# Altium schematic symbol library Microcontrollers.SchLib: 10 symbols
Pins are listed as number, name and electrical type; pins without a type are passive.

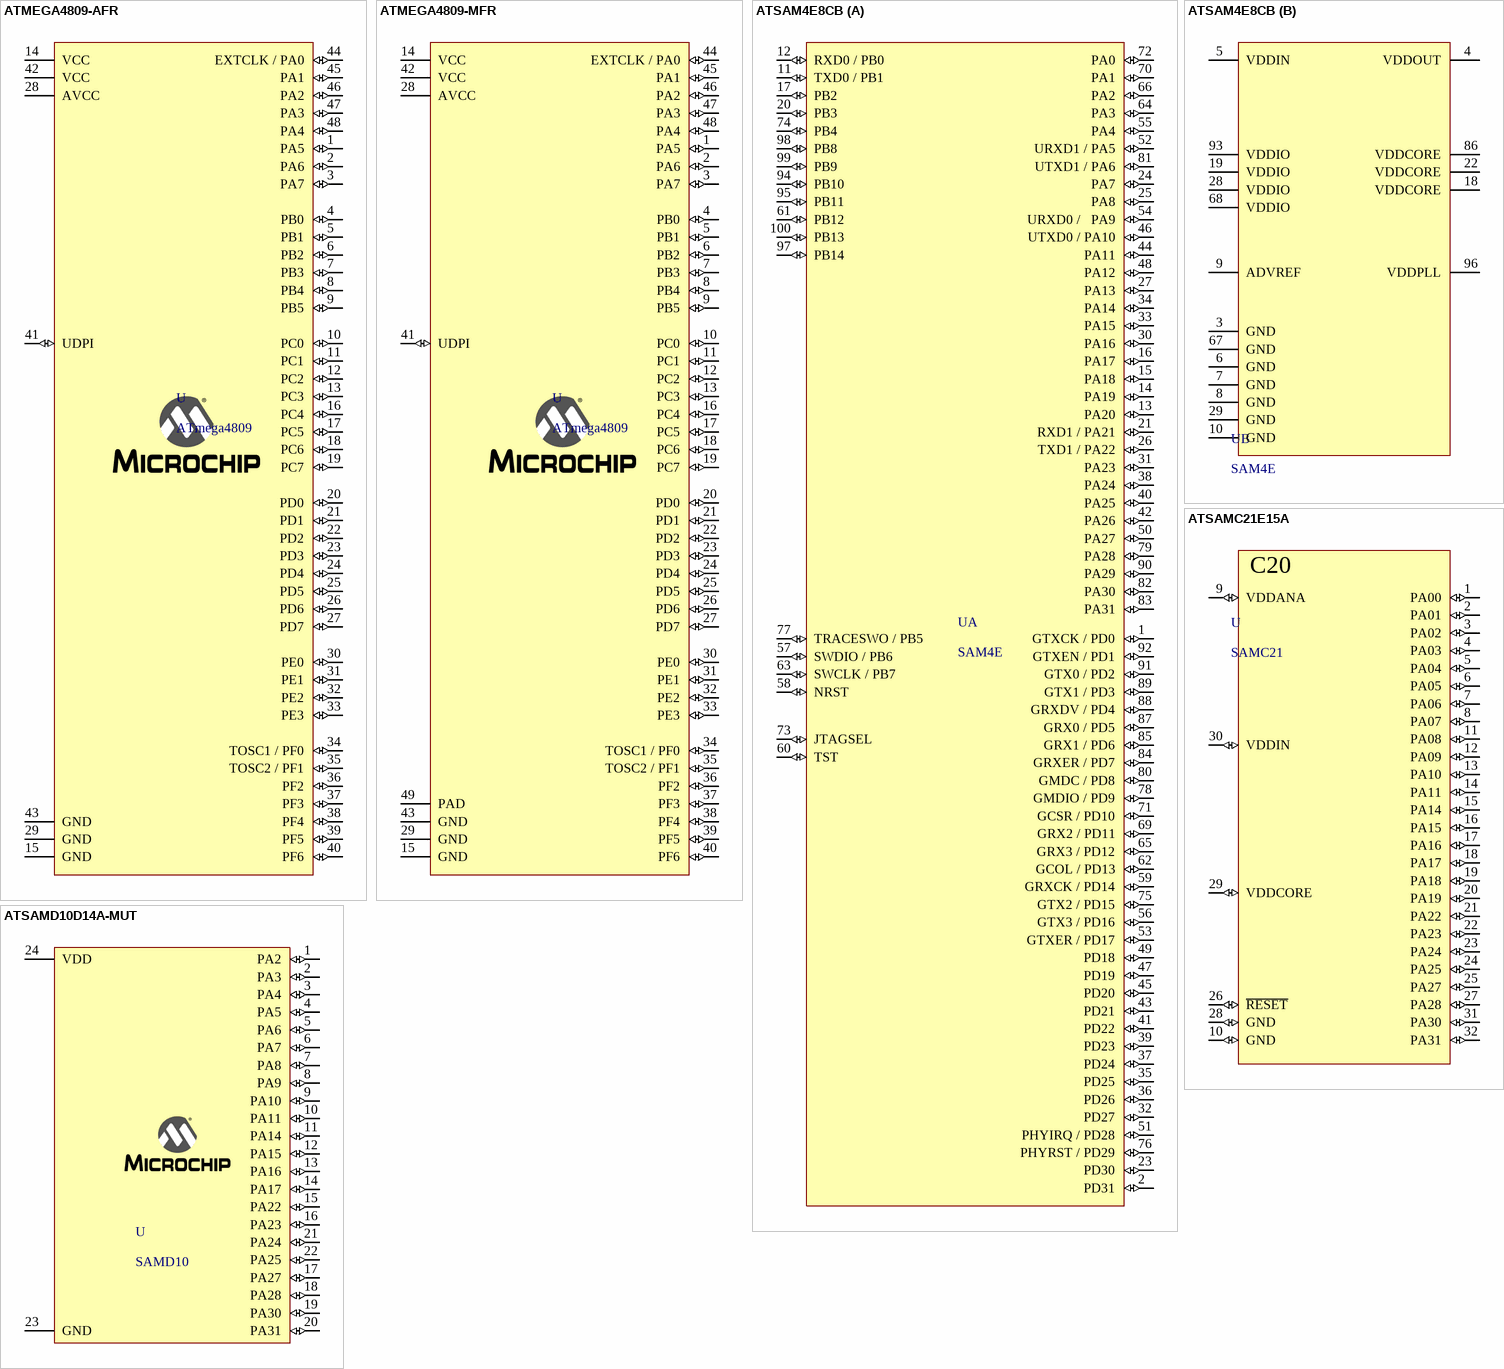
[diagram p0: symbols ATMEGA4809-AFR to ATSAMD10D14A-MUT]

## ATMEGA4809-AFR
designator U, comment ATmega4809
ATmega4809 TQFP; Supplier Part Number 1: 2849259; Supplier 1: Farnell
footprint ATMEGA4809-AFR (TSQFP, 48-Leads, Body 7,00x7,00mm, Pitch 0,50mm, IPC Medium Density)
pins: 1 PA5 (io), 2 PA6 (io), 3 PA7 (io), 4 PB0 (io), 5 PB1 (io), 6 PB2 (io), 7 PB3 (io), 8 PB4 (io), 9 PB5 (io), 10 PC0 (io), 11 PC1 (io), 12 PC2 (io), 13 PC3 (io), 14 VCC (power), 15 GND (power), 16 PC4 (io), 17 PC5 (io), 18 PC6 (io), 19 PC7 (io), 20 PD0 (io), 21 PD1 (io), 22 PD2 (io), 23 PD3 (io), 24 PD4 (io), 25 PD5 (io), 26 PD6 (io), 27 PD7 (io), 28 AVCC (power), 29 GND (power), 30 PE0 (io), 31 PE1 (io), 32 PE2 (io), 33 PE3 (io), 34 TOSC1 / PF0 (io), 35 TOSC2 / PF1 (io), 36 PF2 (io), 37 PF3 (io), 38 PF4 (io), 39 PF5 (io), 40 PF6 (io), 41 UDPI (io), 42 VCC (power), 43 GND (power), 44 EXTCLK / PA0 (io), 45 PA1 (io), 46 PA2 (io), 47 PA3 (io), 48 PA4 (io)

## ATMEGA4809-MFR
designator U, comment ATmega4809
ATmega4809 UQFN; Supplier Part Number 1: 2900707; Supplier 1: Farnell
footprint ATMEGA4809-MFR (QFN, 48-Leads, Body 6.00x6.00mm, Pitch 0.40mm, Thermal Pad 4.60x4.60mm, IPC Medium Density)
pins: 1 PA5 (io), 2 PA6 (io), 3 PA7 (io), 4 PB0 (io), 5 PB1 (io), 6 PB2 (io), 7 PB3 (io), 8 PB4 (io), 9 PB5 (io), 10 PC0 (io), 11 PC1 (io), 12 PC2 (io), 13 PC3 (io), 14 VCC (power), 15 GND (power), 16 PC4 (io), 17 PC5 (io), 18 PC6 (io), 19 PC7 (io), 20 PD0 (io), 21 PD1 (io), 22 PD2 (io), 23 PD3 (io), 24 PD4 (io), 25 PD5 (io), 26 PD6 (io), 27 PD7 (io), 28 AVCC (power), 29 GND (power), 30 PE0 (io), 31 PE1 (io), 32 PE2 (io), 33 PE3 (io), 34 TOSC1 / PF0 (io), 35 TOSC2 / PF1 (io), 36 PF2 (io), 37 PF3 (io), 38 PF4 (io), 39 PF5 (io), 40 PF6 (io), 41 UDPI (io), 42 VCC (power), 43 GND (power), 44 EXTCLK / PA0 (io), 45 PA1 (io), 46 PA2 (io), 47 PA3 (io), 48 PA4 (io), 49 PAD (power)

## ATSAM4E8CB
designator U, comment SAM4E
Cortex-M4 MCU @ 120 MHz / ethernet
footprint ATSAM4E8CB-ANR (TSQFP, 100-Leads, Body 14.00x14.00mm, Pitch 0.50mm, IPC Medium Density)
part A pins: 1 GTXCK / PD0 (io), 2 PD31 (io), 11 TXD0 / PB1 (io), 12 RXD0 / PB0 (io), 13 PA20 (io), 14 PA19 (io), 15 PA18 (io), 16 PA17 (io), 17 PB2 (io), 20 PB3 (io), 21 RXD1 / PA21 (io), 23 PD30 (io), 24 PA7 (io), 25 PA8 (io), 26 TXD1 / PA22 (io), 27 PA13 (io), 30 PA16 (io), 31 PA23 (io), 32 PD27 (io), 33 PA15 (io), 34 PA14 (io), 35 PD25 (io), 36 PD26 (io), 37 PD24 (io), 38 PA24 (io), 39 PD23 (io), 40 PA25 (io), 41 PD22 (io), 42 PA26 (io), 43 PD21 (io), 44 PA11 (io), 45 PD20 (io), 46 UTXD0 / PA10 (io), 47 PD19 (io), 48 PA12 (io), 49 PD18 (io), 50 PA27 (io), 51 PHYIRQ / PD28 (io), 52 URXD1 / PA5 (io), 53 GTXER / PD17 (io), 54 URXD0 /   PA9 (io), 55 PA4 (io), 56 GTX3 / PD16 (io), 57 SWDIO / PB6 (io), 58 NRST (io), 59 GRXCK / PD14 (io), 60 TST (io), 61 PB12 (io), 62 GCOL / PD13 (io), 63 SWCLK / PB7 (io), 64 PA3 (io), 65 GRX3 / PD12 (io), 66 PA2 (io), 69 GRX2 / PD11 (io), 70 PA1 (io), 71 GCSR / PD10 (io), 72 PA0 (io), 73 JTAGSEL (io), 74 PB4 (io), 75 GTX2 / PD15 (io), 76 PHYRST / PD29 (io), 77 TRACESWO / PB5 (io), 78 GMDIO / PD9 (io), 79 PA28 (io), 80 GMDC / PD8 (io), 81 UTXD1 / PA6 (io), 82 PA30 (io), 83 PA31 (io), 84 GRXER / PD7 (io), 85 GRX1 / PD6 (io), 87 GRX0 / PD5 (io), 88 GRXDV / PD4 (io), 89 GTX1 / PD3 (io), 90 PA29 (io), 91 GTX0 / PD2 (io), 92 GTXEN / PD1 (io), 94 PB10 (io), 95 PB11 (io), 97 PB14 (io), 98 PB8 (io), 99 PB9 (io), 100 PB13 (io)
part B pins: 3 GND (power), 4 VDDOUT (power), 5 VDDIN (power), 6 GND (power), 7 GND (power), 8 GND (power), 9 ADVREF (power), 10 GND (power), 18 VDDCORE (power), 19 VDDIO (power), 22 VDDCORE (power), 28 VDDIO (power), 29 GND (power), 67 GND (power), 68 VDDIO (power), 86 VDDCORE (power), 93 VDDIO (power), 96 VDDPLL (power)

## ATSAMC21E15A
designator U, comment SAMC21
Cortex-M0+ MCU @ 48 MHz / 5.0V
footprint ATSAMC21E15A (QFN, 32-Leads, Body 5.00x5.00mm, Pitch 0.50mm, Thermal Pad 3.60x3.60mm, IPC Medium Density)
pins: 1 PA00 (io), 2 PA01 (io), 3 PA02 (io), 4 PA03 (io), 5 PA04 (io), 6 PA05 (io), 7 PA06 (io), 8 PA07 (io), 9 VDDANA (io), 10 GND (io), 11 PA08 (io), 12 PA09 (io), 13 PA10 (io), 14 PA11 (io), 15 PA14 (io), 16 PA15 (io), 17 PA16 (io), 18 PA17 (io), 19 PA18 (io), 20 PA19 (io), 21 PA22 (io), 22 PA23 (io), 23 PA24 (io), 24 PA25 (io), 25 PA27 (io), 26 ~{RESET} (io), 27 PA28 (io), 28 GND (io), 29 VDDCORE (io), 30 VDDIN (io), 31 PA30 (io), 32 PA31 (io)
text: C20

## ATSAMD10D14A-MUT
designator U, comment SAMD10
32-bit MCU
footprint ATSAMD10D14A-MUT (QFN, 24-Leads, Body 4.00x4.00mm, Pitch 0.50mm, Thermal Pad 2.60x2.60mm, IPC Medium Density)
pins: 1 PA2 (io), 2 PA3 (io), 3 PA4 (io), 4 PA5 (io), 5 PA6 (io), 6 PA7 (io), 7 PA8 (io), 8 PA9 (io), 9 PA10 (io), 10 PA11 (io), 11 PA14 (io), 12 PA15 (io), 13 PA16 (io), 14 PA17 (io), 15 PA22 (io), 16 PA23 (io), 17 PA27 (io), 18 PA28 (io), 19 PA30 (io), 20 PA31 (io), 21 PA24 (io), 22 PA25 (io), 23 GND (power), 24 VDD (power)

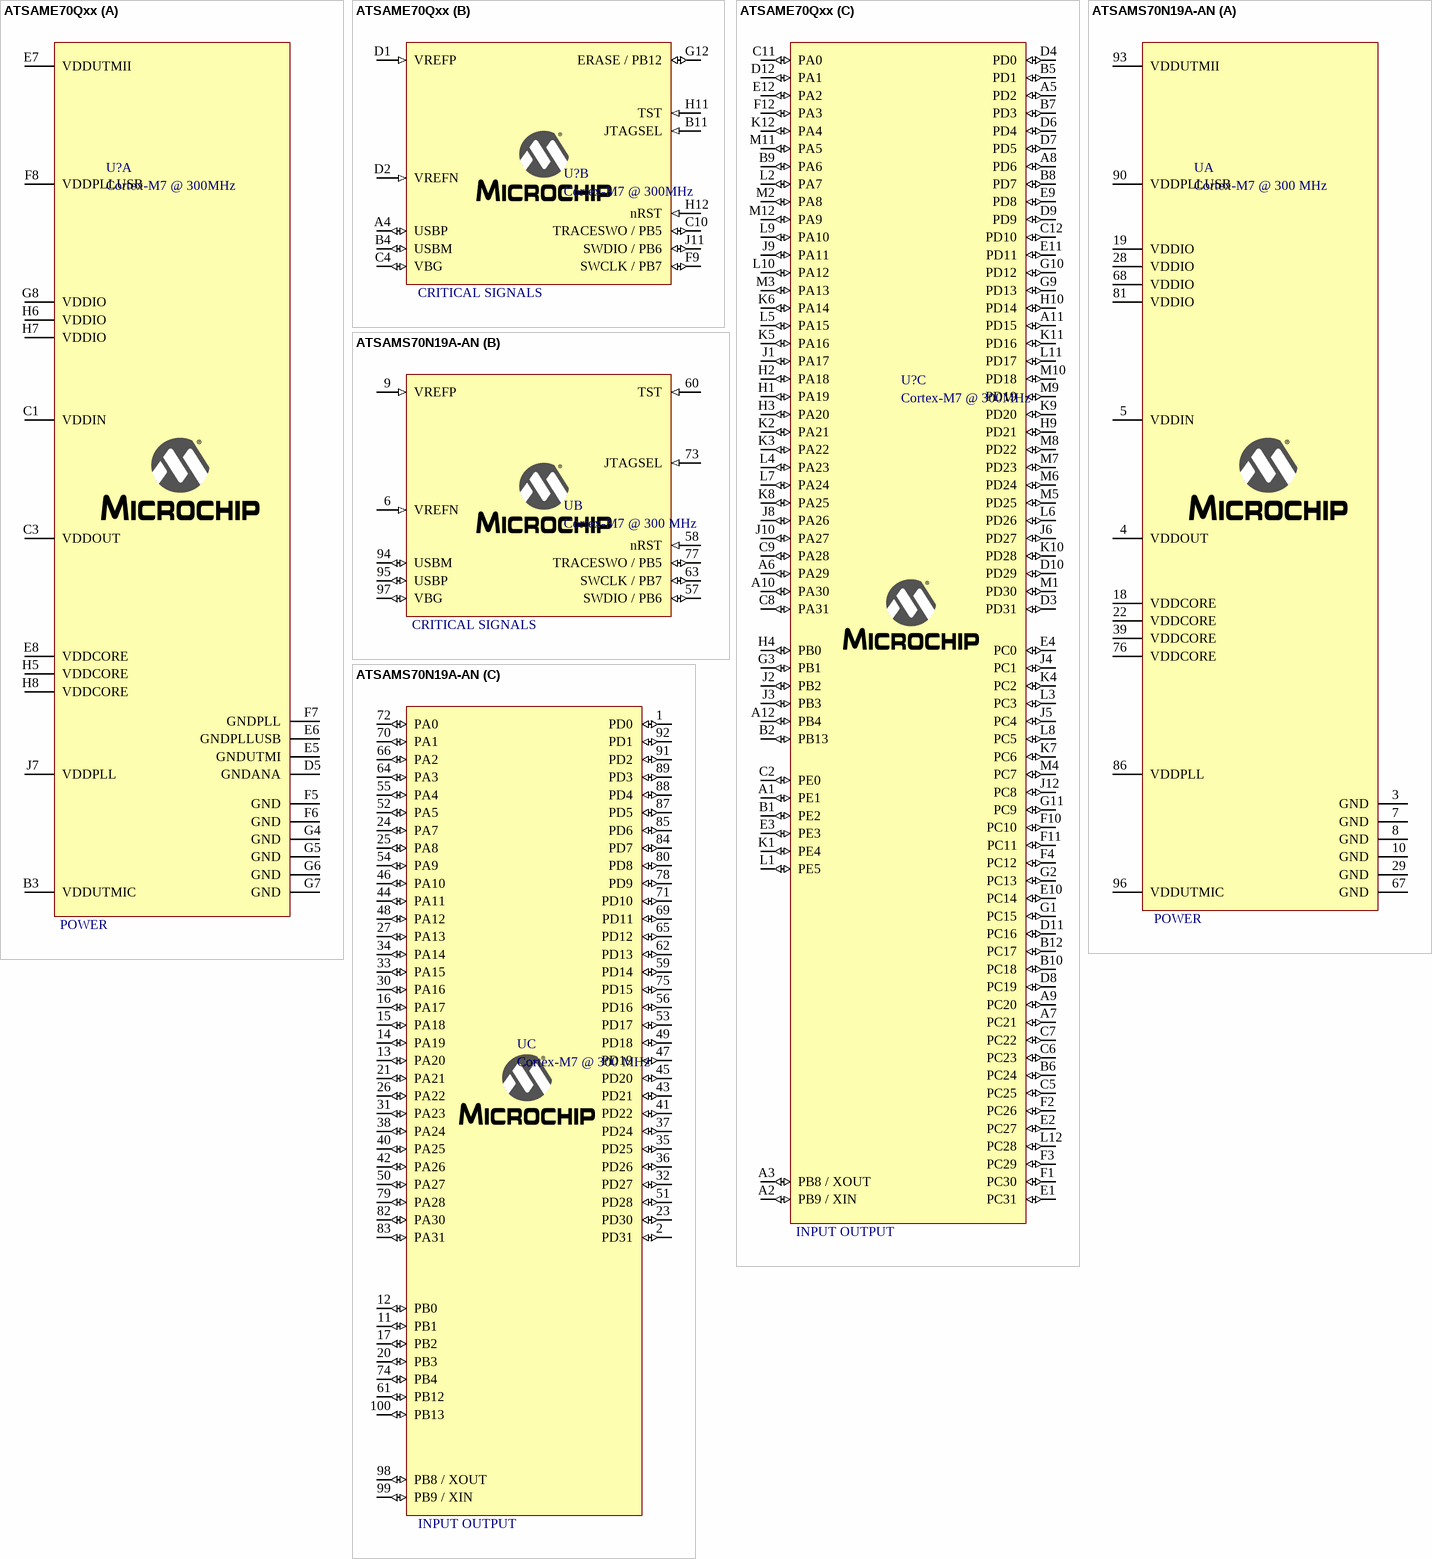
[diagram p1: symbols ATSAME70Qxx to ATSAMS70N19A-AN]

## ATSAME70Qxx
designator U?, comment Cortex-M7 @ 300MHz
ATSAMS70Qxx BGA, 300 MHz, USB, Ethernet.; Supplier Part Number 1: 2484397; Supplier 1: Farnell; Supplier 2: Digi-Key; Supplier Part Number 2: ATSAME70Q21B-CFNTCT-ND
footprint ATSAME70Q20B-CFN (BGA, 81-Leads, Body 10.00x10.00mmx1.40mm, Pitch 0.80mm)
part A pins: B3 VDDUTMIC (power), C1 VDDIN (power), C3 VDDOUT (power), D5 GNDANA (power), E5 GNDUTMI (power), E6 GNDPLLUSB (power), E7 VDDUTMII (power), E8 VDDCORE (power), F5 GND (power), F6 GND (power), F7 GNDPLL (power), F8 VDDPLLUSB (power), G4 GND (power), G5 GND (power), G6 GND (power), G7 GND (power), G8 VDDIO (power), H5 VDDCORE (power), H6 VDDIO (power), H7 VDDIO (power), H8 VDDCORE (power), J7 VDDPLL (power)
part B pins: A4 USBP (io), B4 USBM (io), B11 JTAGSEL (in), C4 VBG (io), C10 TRACESWO / PB5 (io), D1 VREFP (in), D2 VREFN (in), F9 SWCLK / PB7 (io), G12 ERASE / PB12 (io), H11 TST (in), H12 nRST (in), J11 SWDIO / PB6 (io)
part C pins: A1 PE1 (io), A2 PB9 / XIN (io), A3 PB8 / XOUT (io), A5 PD2 (io), A6 PA29 (io), A7 PC21 (io), A8 PD6 (io), A9 PC20 (io), A10 PA30 (io), A11 PD15 (io), A12 PB4 (io), B1 PE2 (io), B2 PB13 (io), B5 PD1 (io), B6 PC24 (io), B7 PD3 (io), B8 PD7 (io), B9 PA6 (io), B10 PC18 (io), B12 PC17 (io), C2 PE0 (io), C5 PC25 (io), C6 PC23 (io), C7 PC22 (io), C8 PA31 (io), C9 PA28 (io), C11 PA0 (io), C12 PD10 (io), D3 PD31 (io), D4 PD0 (io), D6 PD4 (io), D7 PD5 (io), D8 PC19 (io), D9 PD9 (io), D10 PD29 (io), D11 PC16 (io), D12 PA1 (io), E1 PC31 (io), E2 PC27 (io), E3 PE3 (io), E4 PC0 (io), E9 PD8 (io), E10 PC14 (io), E11 PD11 (io), E12 PA2 (io), F1 PC30 (io), F2 PC26 (io), F3 PC29 (io), F4 PC12 (io), F10 PC10 (io), F11 PC11 (io), F12 PA3 (io), G1 PC15 (io), G2 PC13 (io), G3 PB1 (io), G9 PD13 (io), G10 PD12 (io), G11 PC9 (io), H1 PA19 (io), H2 PA18 (io), H3 PA20 (io), H4 PB0 (io), H9 PD21 (io), H10 PD14 (io), J1 PA17 (io), J2 PB2 (io), J3 PB3 (io), J4 PC1 (io), J5 PC4 (io), J6 PD27 (io), J8 PA26 (io), J9 PA11 (io), J10 PA27 (io), J12 PC8 (io), K1 PE4 (io), K2 PA21 (io), K3 PA22 (io), K4 PC2 (io), K5 PA16 (io), K6 PA14 (io), K7 PC6 (io), K8 PA25 (io), K9 PD20 (io), K10 PD28 (io), K11 PD16 (io), K12 PA4 (io), L1 PE5 (io), L2 PA7 (io), L3 PC3 (io), L4 PA23 (io), L5 PA15 (io), L6 PD26 (io), L7 PA24 (io), L8 PC5 (io), L9 PA10 (io), L10 PA12 (io), L11 PD17 (io), L12 PC28 (io), M1 PD30 (io), M2 PA8 (io), M3 PA13 (io), M4 PC7 (io), M5 PD25 (io), M6 PD24 (io), M7 PD23 (io), M8 PD22 (io), M9 PD19 (io), M10 PD18 (io), M11 PA5 (io), M12 PA9 (io)
part A text: POWER
part B text: CRITICAL SIGNALS
part C text: INPUT OUTPUT

## ATSAMS70N19A-AN
designator U, comment Cortex-M7 @ 300 MHz
ATSAMS70N19; Supplier Part Number 1: 2484390; Supplier 1: Farnell
footprint ATSAMS70N19A-AN (TSQFP, 100-Leads, Body 14,00x14,00mm, Pitch 0,50mm, IPC Medium Density)
part A pins: 3 GND (power), 4 VDDOUT (power), 5 VDDIN (power), 7 GND (power), 8 GND (power), 10 GND (power), 18 VDDCORE (power), 19 VDDIO (power), 22 VDDCORE (power), 28 VDDIO (power), 29 GND (power), 39 VDDCORE (power), 67 GND (power), 68 VDDIO (power), 76 VDDCORE (power), 81 VDDIO (power), 86 VDDPLL (power), 90 VDDPLLUSB (power), 93 VDDUTMII (power), 96 VDDUTMIC (power)
part B pins: 6 VREFN (in), 9 VREFP (in), 57 SWDIO / PB6 (io), 58 nRST (in), 60 TST (in), 63 SWCLK / PB7 (io), 73 JTAGSEL (in), 77 TRACESWO / PB5 (io), 94 USBM (io), 95 USBP (io), 97 VBG (io)
part C pins: 1 PD0 (io), 2 PD31 (io), 11 PB1 (io), 12 PB0 (io), 13 PA20 (io), 14 PA19 (io), 15 PA18 (io), 16 PA17 (io), 17 PB2 (io), 20 PB3 (io), 21 PA21 (io), 23 PD30 (io), 24 PA7 (io), 25 PA8 (io), 26 PA22 (io), 27 PA13 (io), 30 PA16 (io), 31 PA23 (io), 32 PD27 (io), 33 PA15 (io), 34 PA14 (io), 35 PD25 (io), 36 PD26 (io), 37 PD24 (io), 38 PA24 (io), 40 PA25 (io), 41 PD22 (io), 42 PA26 (io), 43 PD21 (io), 44 PA11 (io), 45 PD20 (io), 46 PA10 (io), 47 PD19 (io), 48 PA12 (io), 49 PD18 (io), 50 PA27 (io), 51 PD28 (io), 52 PA5 (io), 53 PD17 (io), 54 PA9 (io), 55 PA4 (io), 56 PD16 (io), 59 PD14 (io), 61 PB12 (io), 62 PD13 (io), 64 PA3 (io), 65 PD12 (io), 66 PA2 (io), 69 PD11 (io), 70 PA1 (io), 71 PD10 (io), 72 PA0 (io), 74 PB4 (io), 75 PD15 (io), 78 PD9 (io), 79 PA28 (io), 80 PD8 (io), 82 PA30 (io), 83 PA31 (io), 84 PD7 (io), 85 PD6 (io), 87 PD5 (io), 88 PD4 (io), 89 PD3 (io), 91 PD2 (io), 92 PD1 (io), 98 PB8 / XOUT (io), 99 PB9 / XIN (io), 100 PB13 (io)
part A text: POWER
part B text: CRITICAL SIGNALS
part C text: INPUT OUTPUT

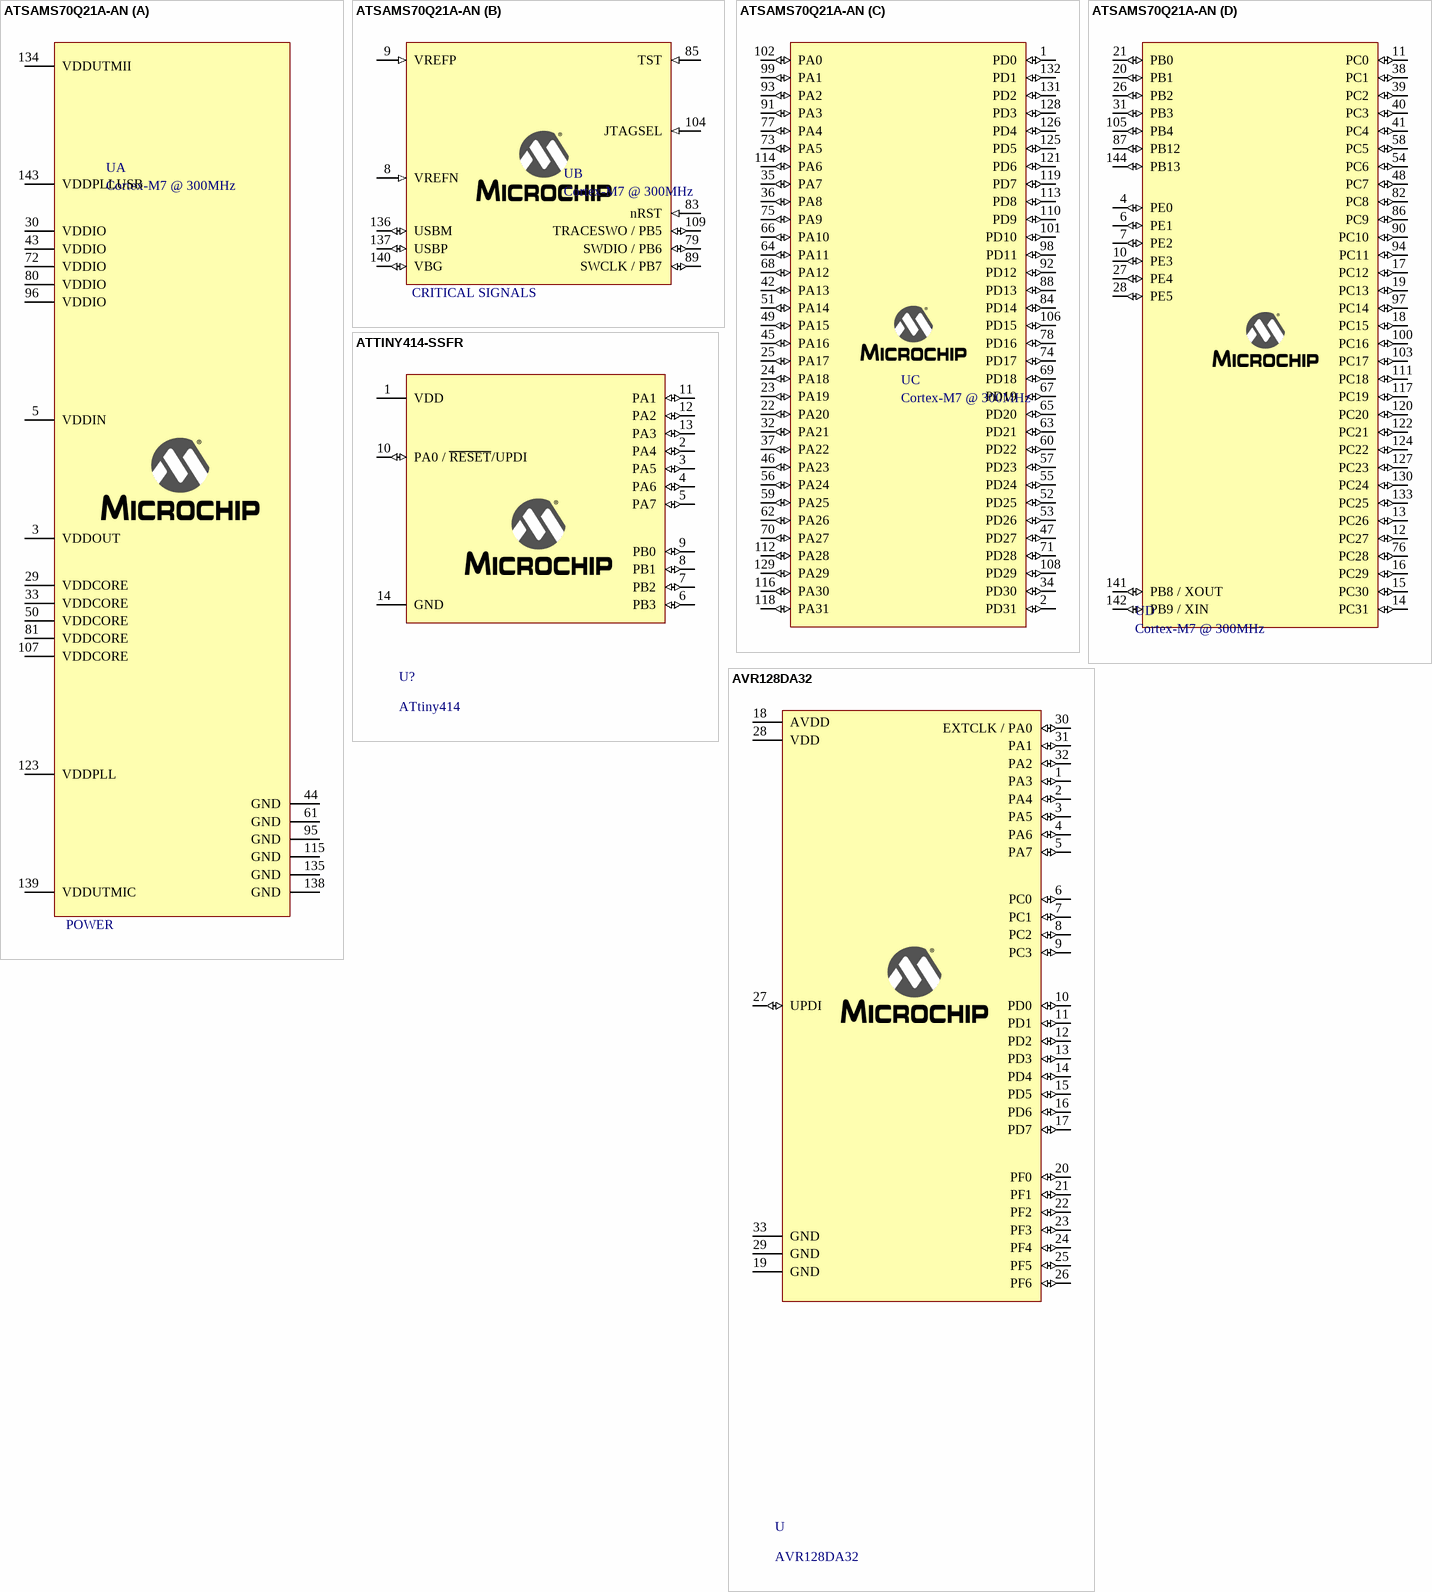
[diagram p2: symbols ATSAMS70Q21A-AN to AVR128DA32]

## ATSAMS70Q21A-AN
designator U, comment Cortex-M7 @ 300MHz
ATSAMS70Q21; Supplier Part Number 1: 2484397; Supplier 1: Farnell
footprint ATSAMS70Q21A-AN (TSQFP, 144-Leads, Body 20,00x20,00mm, Pitch 0,50mm, IPC Medium Density)
part A pins: 3 VDDOUT (power), 5 VDDIN (power), 29 VDDCORE (power), 30 VDDIO (power), 33 VDDCORE (power), 43 VDDIO (power), 44 GND (power), 50 VDDCORE (power), 61 GND (power), 72 VDDIO (power), 80 VDDIO (power), 81 VDDCORE (power), 95 GND (power), 96 VDDIO (power), 107 VDDCORE (power), 115 GND (power), 123 VDDPLL (power), 134 VDDUTMII (power), 135 GND (power), 138 GND (power), 139 VDDUTMIC (power), 143 VDDPLLUSB (power)
part B pins: 8 VREFN (in), 9 VREFP (in), 79 SWDIO / PB6 (io), 83 nRST (in), 85 TST (in), 89 SWCLK / PB7 (io), 104 JTAGSEL (in), 109 TRACESWO / PB5 (io), 136 USBM (io), 137 USBP (io), 140 VBG (io)
part C pins: 1 PD0 (io), 2 PD31 (io), 22 PA20 (io), 23 PA19 (io), 24 PA18 (io), 25 PA17 (io), 32 PA21 (io), 34 PD30 (io), 35 PA7 (io), 36 PA8 (io), 37 PA22 (io), 42 PA13 (io), 45 PA16 (io), 46 PA23 (io), 47 PD27 (io), 49 PA15 (io), 51 PA14 (io), 52 PD25 (io), 53 PD26 (io), 55 PD24 (io), 56 PA24 (io), 57 PD23 (io), 59 PA25 (io), 60 PD22 (io), 62 PA26 (io), 63 PD21 (io), 64 PA11 (io), 65 PD20 (io), 66 PA10 (io), 67 PD19 (io), 68 PA12 (io), 69 PD18 (io), 70 PA27 (io), 71 PD28 (io), 73 PA5 (io), 74 PD17 (io), 75 PA9 (io), 77 PA4 (io), 78 PD16 (io), 84 PD14 (io), 88 PD13 (io), 91 PA3 (io), 92 PD12 (io), 93 PA2 (io), 98 PD11 (io), 99 PA1 (io), 101 PD10 (io), 102 PA0 (io), 106 PD15 (io), 108 PD29 (io), 110 PD9 (io), 112 PA28 (io), 113 PD8 (io), 114 PA6 (io), 116 PA30 (io), 118 PA31 (io), 119 PD7 (io), 121 PD6 (io), 125 PD5 (io), 126 PD4 (io), 128 PD3 (io), 129 PA29 (io), 131 PD2 (io), 132 PD1 (io)
part D pins: 4 PE0 (io), 6 PE1 (io), 7 PE2 (io), 10 PE3 (io), 11 PC0 (io), 12 PC27 (io), 13 PC26 (io), 14 PC31 (io), 15 PC30 (io), 16 PC29 (io), 17 PC12 (io), 18 PC15 (io), 19 PC13 (io), 20 PB1 (io), 21 PB0 (io), 26 PB2 (io), 27 PE4 (io), 28 PE5 (io), 31 PB3 (io), 38 PC1 (io), 39 PC2 (io), 40 PC3 (io), 41 PC4 (io), 48 PC7 (io), 54 PC6 (io), 58 PC5 (io), 76 PC28 (io), 82 PC8 (io), 86 PC9 (io), 87 PB12 (io), 90 PC10 (io), 94 PC11 (io), 97 PC14 (io), 100 PC16 (io), 103 PC17 (io), 105 PB4 (io), 111 PC18 (io), 117 PC19 (io), 120 PC20 (io), 122 PC21 (io), 124 PC22 (io), 127 PC23 (io), 130 PC24 (io), 133 PC25 (io), 141 PB8 / XOUT (io), 142 PB9 / XIN (io), 144 PB13 (io)
part A text: POWER
part B text: CRITICAL SIGNALS

## ATTINY414-SSFR
designator U?, comment ATtiny414
Supplier Part Number 1: ATTINY414-SSFRCT-ND; Supplier 1: Digi-Key
footprint ATTINY414-SSFR (SOIC, 14-Leads, Body 8.65x3.90mm, Pitch 1.27mm, IPC Medium Density)
pins: 1 VDD (power), 2 PA4 (io), 3 PA5 (io), 4 PA6 (io), 5 PA7 (io), 6 PB3 (io), 7 PB2 (io), 8 PB1 (io), 9 PB0 (io), 10 PA0 / ~{RESET}/UPDI (io), 11 PA1 (io), 12 PA2 (io), 13 PA3 (io), 14 GND (power)

## AVR128DA32
designator U
footprint AVR128DA32 (QFN, 32-Leads, Body 5.00x5.00mm, Pitch 0.50mm, Thermal Pad 3.10x3.10mm, IPC Medium Density)
pins: 1 PA3 (io), 2 PA4 (io), 3 PA5 (io), 4 PA6 (io), 5 PA7 (io), 6 PC0 (io), 7 PC1 (io), 8 PC2 (io), 9 PC3 (io), 10 PD0 (io), 11 PD1 (io), 12 PD2 (io), 13 PD3 (io), 14 PD4 (io), 15 PD5 (io), 16 PD6 (io), 17 PD7 (io), 18 AVDD (power), 19 GND (power), 20 PF0 (io), 21 PF1 (io), 22 PF2 (io), 23 PF3 (io), 24 PF4 (io), 25 PF5 (io), 26 PF6 (io), 27 UPDI (io), 28 VDD (power), 29 GND (power), 30 EXTCLK / PA0 (io), 31 PA1 (io), 32 PA2 (io), 33 GND (power)